# EAGLE library part EDG-8 (library Schalter_V12)
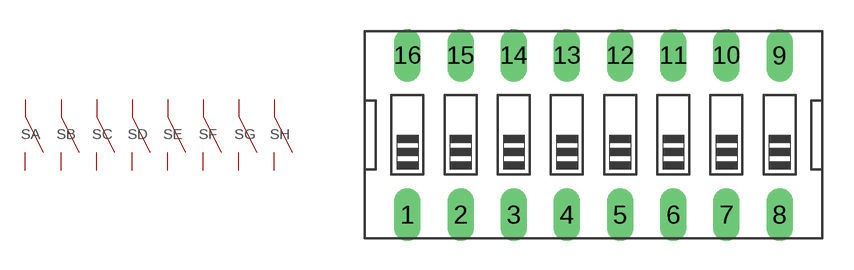
[diagram p2: symbol with the pads of EDG-08; footprint EDG-08]

Designator prefix S; gates A=SWITCH B=SWITCH C=SWITCH D=SWITCH E=SWITCH F=SWITCH G=SWITCH H=SWITCH

## EDG-8  [EDG-08]
1  A:1
2  B:1
3  C:1
4  D:1
5  E:1
6  F:1
7  G:1
8  H:1
9  H:2
10  G:2
11  F:2
12  E:2
13  D:2
14  C:2
15  B:2
16  A:2

## Footprint EDG-08 (pad centres in mm)
drill 0.406 pad 1.27 long: 1 -8.89,-3.81; 2 -6.35,-3.81; 3 -3.81,-3.81; 4 -1.27,-3.81; 5 1.27,-3.81; 6 3.81,-3.81; 7 6.35,-3.81; 8 8.89,-3.81; 9 8.89,3.81; 10 6.35,3.81; 11 3.81,3.81; 12 1.27,3.81; 13 -1.27,3.81; 14 -3.81,3.81; 15 -6.35,3.81; 16 -8.89,3.81